# Altium footprint library SOP65P640X120-17N.PcbLib: 1 footprints
Each footprint in its own frame and in the unit in brackets; x right, y up, seen from the top. Pads: shape width x height; smd on the part's side, far side on the other; paste and mask are expansions set on the pad; w line width, h text height; cw(c..) or ccw(c..) is an arc to the next point about the centre after c.
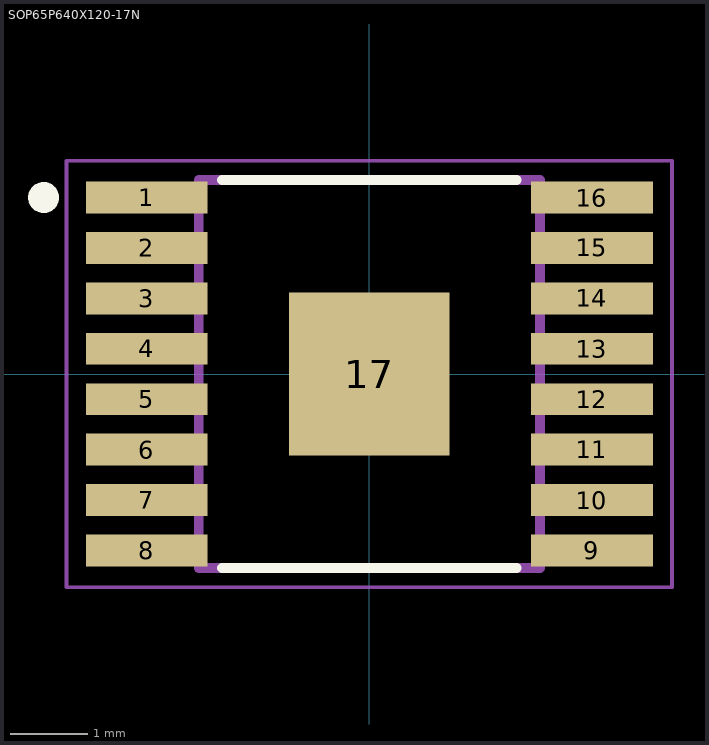
[diagram p0: the footprint, top view; thin cyan lines are the x and y axes]

## SOP65P640X120-17N [mm] "Standard SOP package with PowerPAD"
height 1.2
pads (17):
  rect 1.57x0.41 smd: 1(-2.87,2.275) 2(-2.87,1.625) 3(-2.87,0.975) 4(-2.87,0.325) 5(-2.87,-0.325) 6(-2.87,-0.975) 7(-2.87,-1.625) 8(-2.87,-2.275) 9(2.87,-2.275) 10(2.87,-1.625) 11(2.87,-0.975) 12(2.87,-0.325) 13(2.87,0.325) 14(2.87,0.975) 15(2.87,1.625) 16(2.87,2.275)
  rect 2.07x2.105 smd: 17(0,0)
Top Overlay:
  circle w0.2: c-4.2,2.275 r0.1
  lines w0.127: -1.9,-2.5 1.9,-2.5 ; -1.9,2.5 1.9,2.5
Top Paste:
  region: -0.655,0.665 0.655,0.665 0.655,-0.665 -0.655,-0.665
Mechanical 13:
  circle w0.2: c-3.4,2.275 r0.1
  circle w0.2: c-3.4,2.275 r0.1
  lines w0.127: -2.2,-2.5 2.2,-2.5 ; -2.2,-2.5 -2.2,2.5 ; -2.2,-2.5 2.2,-2.5 ; -2.2,-2.5 -2.2,2.5 ; -2.2,2.5 2.2,2.5 ; -2.2,2.5 2.2,2.5 ; 2.2,-2.5 2.2,2.5 ; 2.2,-2.5 2.2,2.5
Mechanical 15:
  lines w0.05: -3.905,-2.75 3.905,-2.75 3.905,2.75 -3.905,2.75 -3.905,-2.75